# Altium footprint library Quartz.PcbLib: 4 footprints
Each footprint in its own frame and in the unit in brackets; x right, y up, seen from the top. Pads: shape width x height; smd on the part's side, far side on the other; paste and mask are expansions set on the pad; w line width, h text height; cw(c..) or ccw(c..) is an arc to the next point about the centre after c.
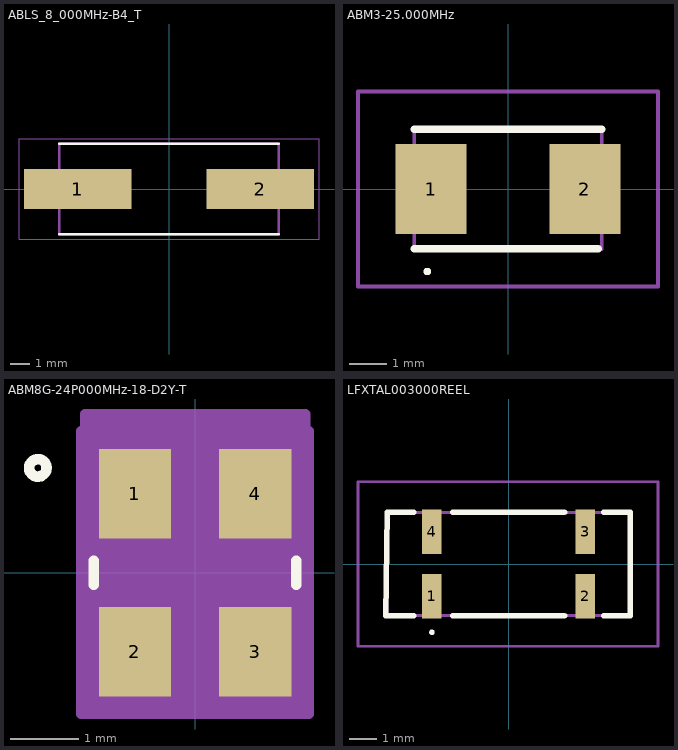
[diagram p0: the footprints below, top view; thin cyan lines are the x and y axes]

## ABLS_8_000MHz-B4_T [mm]
pads (2):
  rect 5.6x2.1 smd: 1(-4.75,0) 2(4.75,0)
Top Overlay:
  lines w0.127: -5.7,-2.35 5.7,-2.35 ; -5.7,2.35 5.7,2.35
Mechanical 13:
  lines w0.127: -5.7,-2.35 5.7,-2.35 5.7,2.35 -5.7,2.35 -5.7,-2.35
Mechanical 15:
  lines w0.05: -7.8,-2.6 7.8,-2.6 7.8,2.6 -7.8,2.6 -7.8,-2.6
3D body "step_temp.STEP": height 4.2, standoff 0, extent -6.35,-2.35 6.35,2.35

## ABM3-25.000MHz [mm]
pads (2):
  rect 1.9x2.4 smd: 1(-2.05,0) 2(2.05,0)
Top Overlay:
  lines w0.1: -2.2,-2.2 cw(c-2.15,-2.2) -2.1,-2.2 cw(c-2.15,-2.2) -2.2,-2.2
  lines w0.2: -2.5,-1.6 2.4,-1.6 ; -2.5,1.6 2.5,1.6
Mechanical 13:
  lines w0.1: -2.5,-1.6 -2.5,1.6 2.5,1.6 2.5,-1.6 -2.5,-1.6
Mechanical 15:
  lines w0.1: -4,-2.6 -4,2.6 4,2.6 4,-2.6 -4,-2.6
3D body "ABM3-25.000MHZ-B2-T.stp": height 1.3, standoff 0, extent -2.5,-1.6 2.5,1.6

## ABM8G-24P000MHz-18-D2Y-T [mm]
pads (4):
  rect 1.05x1.3 smd paste-0.525 mask+0: 1(-0.875,1.15) 2(-0.875,-1.15) 3(0.875,-1.15) 4(0.875,1.15)
Top Overlay:
  circle w0.152: c-2.286,1.524 r0.127
  lines w0.152: -1.473,-0.175 -1.473,0.175 ; 1.473,-0.175 1.473,0.175
Mechanical 13:
  circle w0: c-0.35,1.15 r0.076
  lines w0: -0.305,1.702 ccw(c0,1.702) 0.305,1.702
  lines w0.025: -1.346,-1.702 1.346,-1.702 1.346,1.702 -1.346,1.702 -1.346,-1.702
Mechanical 15:
  region: -1.6,-2.054 -1.654,-2.054 -1.654,2.054 -1.6,2.054 -1.6,2.308 1.6,2.308 1.6,2.054 1.654,2.054 1.654,-2.054 1.6,-2.054
  lines w0.152: -1.654,-2.054 -1.654,2.054 -1.6,2.054 -1.6,2.308 1.6,2.308 1.6,2.054 1.654,2.054 1.654,-2.054 1.6,-2.054 -1.6,-2.054 -1.654,-2.054
3D body "CRYSTAL_ABM8G_ABR.step": height 0.81, standoff 0, extent -1.346,-1.702 1.346,1.702

## LFXTAL003000REEL [mm]
pads (4):
  rect 0.7x1.6 smd: 1(-2.75,-1.15) 2(2.75,-1.15) 3(2.75,1.15) 4(-2.75,1.15)
Top Overlay:
  lines w0.1: -2.75,-2.5 cw(c-2.75,-2.45) -2.75,-2.4 cw(c-2.75,-2.45) -2.75,-2.5
  lines w0.2: -3.4,-1.85 -4.4,-1.85 -4.35,1.85 -3.4,1.85 ; -2,-1.85 2,-1.85 ; -2,1.85 2,1.85 ; 3.4,-1.85 4.35,-1.85 4.35,1.85 3.4,1.85
Mechanical 13:
  lines w0.1: -4.35,-1.85 4.35,-1.85 4.35,1.85 -4.35,1.85 -4.35,-1.85
Mechanical 15:
  lines w0.1: -5.4,-2.95 5.35,-2.95 5.35,2.95 -5.4,2.95 -5.4,-2.95
3D body "LFXTAL003000REEL.stp": height 2.6, standoff 0, extent -4.35,-1.88 4.35,1.88